# Altium footprint library SO8.PcbLib: 1 footprints
Each footprint in its own frame and in the unit in brackets; x right, y up, seen from the top. Pads: shape width x height; smd on the part's side, far side on the other; paste and mask are expansions set on the pad; w line width, h text height; cw(c..) or ccw(c..) is an arc to the next point about the centre after c.
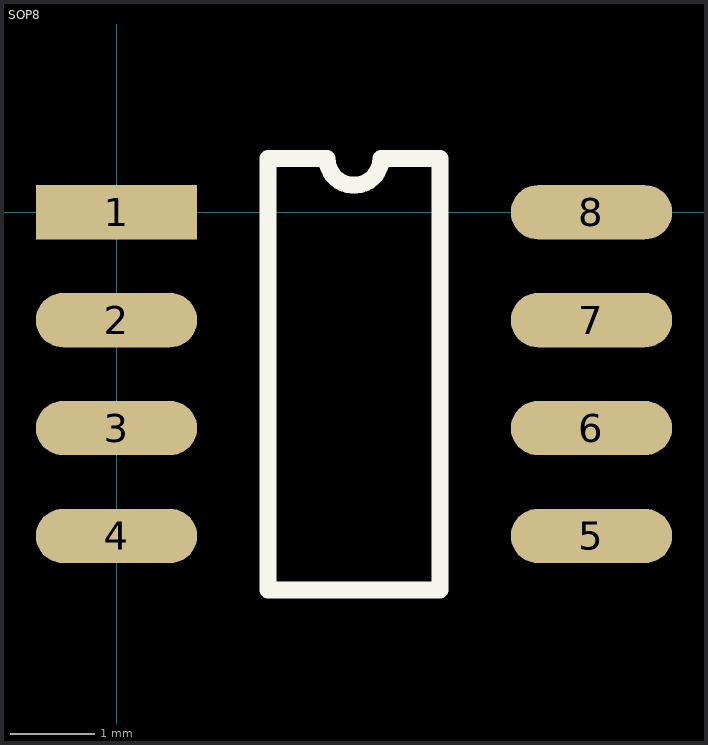
[diagram p0: the footprint, top view; thin cyan lines are the x and y axes]

## SOP8 [mm]
pads (8):
  rect 1.9x0.64 smd: 1(0,0)
  oval 1.9x0.64 smd: 2(0,-1.27) 3(0,-2.54) 4(0,-3.81) 5(5.59,-3.81) 6(5.59,-2.54) 7(5.59,-1.27) 8(5.59,0)
Top Overlay:
  lines w0.2: 1.785,-4.445 3.805,-4.445 3.805,0.635 3.112,0.635 cw(c2.795,0.635) 2.477,0.635 1.785,0.635 1.785,-4.445